# Altium footprint library PLCC.PcbLib: 4 footprints
Each footprint in its own frame and in the unit in brackets; x right, y up, seen from the top. Pads: shape width x height; smd on the part's side, far side on the other; paste and mask are expansions set on the pad; w line width, h text height; cw(c..) or ccw(c..) is an arc to the next point about the centre after c.
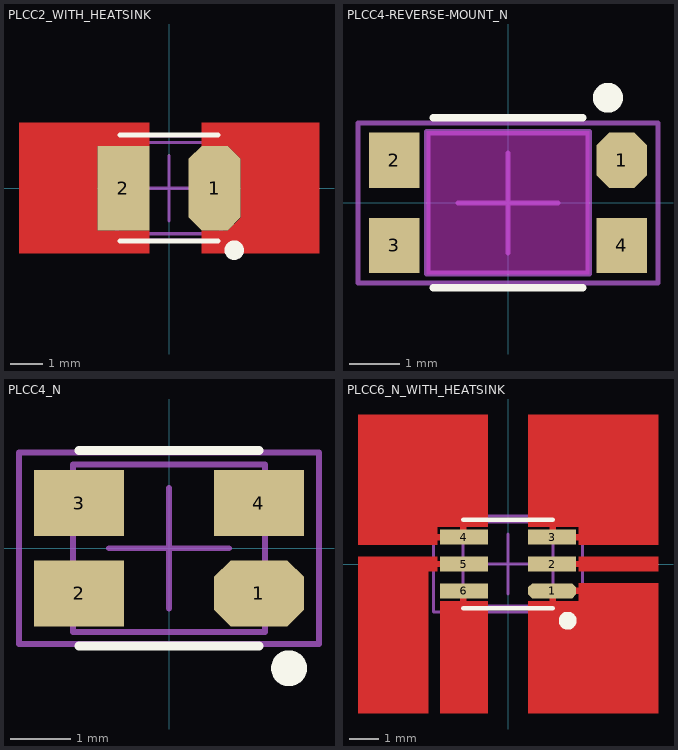
[diagram p0: the footprints below, top view; thin cyan lines are the x and y axes]

## PLCC2_WITH_HEATSINK [mm] "PLCC, 2-Leads, Body 3x2.8mm, Lead Span 3.5mm, with heatsink pad extensions"
height 1.85
pads (2):
  oct 1.6x2.6 smd: 1(1.4,0)
  rect 1.6x2.6 smd: 2(-1.4,0)
Top Layer:
  region: -4.6,-2 -4.6,2 -0.6,2 -0.6,1.3 -2.2,1.3 -2.2,-1.3 -0.6,-1.3 -0.6,-2
  region: 4.6,2 4.6,-2 1,-2 1,-1.3 1.8,-1.3 2.2,-0.9 2.2,0.9 1.8,1.3 1,1.3 1,2
Top Overlay:
  circle w0.3: c2,-1.9 r0.15
  lines w0.15: -1.5,-1.625 1.5,-1.625 ; -1.5,1.625 1.5,1.625
Mechanical 13:
  lines w0.1: -1.6,-1.4 -1.6,1.4 1.6,1.4 1.6,-1.4 -1.6,-1.4
Mechanical 15:
  lines w0.1: -1,0 1,0 ; 0,-1 0,1 ; -2.4,-1.6 2.4,-1.6 2.4,1.6 -2.4,1.6 -2.4,-1.6
3D body: height 1.85, standoff 0, extent -1.6,-1.4 1.6,1.4

## PLCC4-REVERSE-MOUNT_N [mm] "PLCC reverse mount, 4-Leads, Body 3.2x2.8mm, 1.7mm pitch, Lead Span 5.4mm, IPC Medium Density"
height 1.1
pads (4):
  oct 1x1.1 smd: 1(2.275,0.85)
  rect 1x1.1 smd: 2(-2.275,0.85) 3(-2.275,-0.85) 4(2.275,-0.85)
Top Overlay:
  circle w0.3: c2,2.1 r0.15
  lines w0.15: -1.5,-1.7 1.5,-1.7 ; -1.5,1.7 1.5,1.7
Keep-Out Layer:
  board cut-out: -1.625,-1.425 -1.625,1.425 1.625,1.425 1.625,-1.425
  region: -1.625,-1.425 -1.625,1.425 1.625,1.425 1.625,-1.425
Mechanical 1:
  lines w0.1: -1.625,-1.425 1.625,-1.425 1.625,1.425 -1.625,1.425 -1.625,-1.425
Mechanical 13:
  lines w0.1: -1.6,-1.4 -1.6,1.4 1.6,1.4 1.6,-1.4 -1.6,-1.4
Mechanical 15:
  lines w0.1: -1,0 1,0 ; 0,-1 0,1 ; -3,-1.6 -3,1.6 3,1.6 3,-1.6 -3,-1.6
3D body: height 0.9, standoff 0, extent 1.6,-1.2 2.7,-0.5
3D body: height 1.1, standoff -0.8, extent -1.6,-1.4 1.6,1.4
3D body: height 0.9, standoff 0, extent -2.7,0.5 -1.6,1.2
3D body: height 0.9, standoff 0, extent -2.7,-1.2 -1.6,-0.5
3D body: height 0.9, standoff 0, extent 1.6,0.5 2.7,1.2

## PLCC4_N [mm] "PLCC, 4-Leads, Body 3.2x2.8x1.9mm, Pitch 1.7mm, Lead Span 3.4mm, IPC Medium Density"
height 1.9
pads (4):
  oct 1.5x1.1 smd: 1(1.5,-0.75)
  rect 1.5x1.1 smd: 2(-1.5,-0.75) 3(-1.5,0.75) 4(1.5,0.75)
Top Overlay:
  circle w0.3: c2,-2 r0.15
  lines w0.15: -1.5,-1.625 1.5,-1.625 ; -1.5,1.625 1.5,1.625
Mechanical 13:
  lines w0.1: -1.6,-1.4 -1.6,1.4 1.6,1.4 1.6,-1.4 -1.6,-1.4
Mechanical 15:
  lines w0.1: -1,0 1,0 ; 0,-1 0,1 ; -2.5,-1.6 -2.5,1.6 2.5,1.6 2.5,-1.6 -2.5,-1.6
3D body: height 1.9, standoff 0, extent -1.6,-1.4 1.6,1.4

## PLCC6_N_WITH_HEATSINK [mm] "PLCC, 6-Leads, Body 3x2.8x1.9mm, Pitch 0.9mm, Lead Span 3.4mm, IPC Medium Density, With Heatsink Pad Extensions"
height 2
pads (6):
  oct 1.6x0.5 smd: 1(1.475,-0.9)
  rect 1.6x0.5 smd: 2(1.475,0) 3(1.475,0.9) 4(-1.475,0.9) 5(-1.475,0) 6(-1.475,-0.9)
Top Layer:
  region: 2.25,-0.1 2.25,0.1 2.375,0.1 2.375,0.25 5.025,0.25 5.025,-0.25 2.375,-0.25 2.375,-0.1
  region: -5.025,-5 -5.025,0.25 -2.375,0.25 -2.375,0.1 -2.25,0.1 -2.25,-0.1 -2.375,-0.1 -2.375,-0.25 -2.675,-0.25 -2.675,-5
  region: 0.675,-5 0.675,-1.25 1.4,-1.25 1.4,-1.125 1.6,-1.125 1.6,-1.25 2.375,-1.25 2.375,-1 2.25,-1 2.25,-0.8 2.375,-0.8 2.375,-0.65 5.025,-0.65 5.025,-5
  region: -0.675,5 -0.675,1.25 -1.4,1.25 -1.4,1.125 -1.6,1.125 -1.6,1.25 -2.375,1.25 -2.375,1 -2.25,1 -2.25,0.8 -2.375,0.8 -2.375,0.65 -5.025,0.65 -5.025,5
  region: 0.675,5 0.675,1.25 1.4,1.25 1.4,1.125 1.6,1.125 1.6,1.25 2.375,1.25 2.375,1 2.25,1 2.25,0.8 2.375,0.8 2.375,0.65 5.025,0.65 5.025,5
  region: -2.275,-5 -2.275,-1.25 -1.6,-1.25 -1.6,-1.125 -1.4,-1.125 -1.4,-1.25 -0.675,-1.25 -0.675,-5
Top Overlay:
  circle w0.3: c2,-1.9 r0.15
  lines w0.15: -1.5,-1.475 1.5,-1.475 ; -1.5,1.475 1.5,1.475
Mechanical 13:
  lines w0.1: -1.5,-1.4 -1.5,1.4 1.5,1.4 1.5,-1.4 -1.5,-1.4
Mechanical 15:
  lines w0.1: -1,0 1,0 ; 0,-1 0,1 ; -2.5,-1.6 -2.5,1.6 2.5,1.6 2.5,-1.6 -2.5,-1.6
3D body: height 1.9, standoff 0, extent -1.5,-1.4 1.5,1.4